# EAGLE library part NRF24L01 (library FansElectronics-Modul)
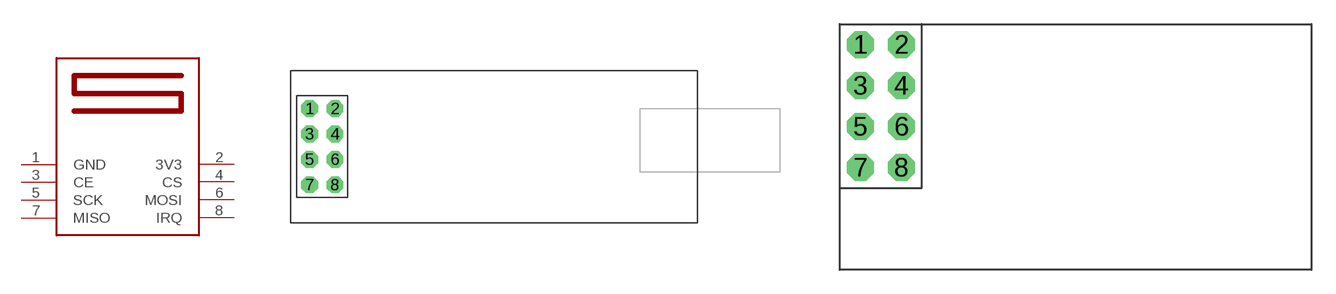
[diagram p24: symbol with the pads of NRF24L01-PA; footprints NRF24L01-PA, NRF24L01]

Designator prefix MOD

## NRF24L01PA  [NRF24L01-PA]
1  GND  pwr
2  3V3  pwr
3  CE
4  CS
5  SCK
6  MOSI
7  MISO
8  IRQ

## NRF24L01"  [NRF24L01]
Pads as for NRF24L01-PA

## NRF24L01HEADER  [NRF24L01-HEADER]
Pads as for NRF24L01-PA

## Footprint NRF24L01-PA (pad centres in mm)
drill 1 pad 1.676 octagon: 1 -1.27,3.81; 2 1.27,3.81; 3 -1.27,1.27; 4 1.27,1.27; 5 -1.27,-1.27; 6 1.27,-1.27; 7 -1.27,-3.81; 8 1.27,-3.81

## Footprint NRF24L01 (pad centres in mm)
drill 1 pad 1.676 octagon: 1 -1.27,3.81; 2 1.27,3.81; 3 -1.27,1.27; 4 1.27,1.27; 5 -1.27,-1.27; 6 1.27,-1.27; 7 -1.27,-3.81; 8 1.27,-3.81

## Footprint NRF24L01-HEADER (pad centres in mm)
drill 1 pad 1.676 octagon: 1 -1.27,3.81; 2 1.27,3.81; 3 -1.27,1.27; 4 1.27,1.27; 5 -1.27,-1.27; 6 1.27,-1.27; 7 -1.27,-3.81; 8 1.27,-3.81